# EAGLE library part SPRESENSE_100PIN_CON (library hirose)
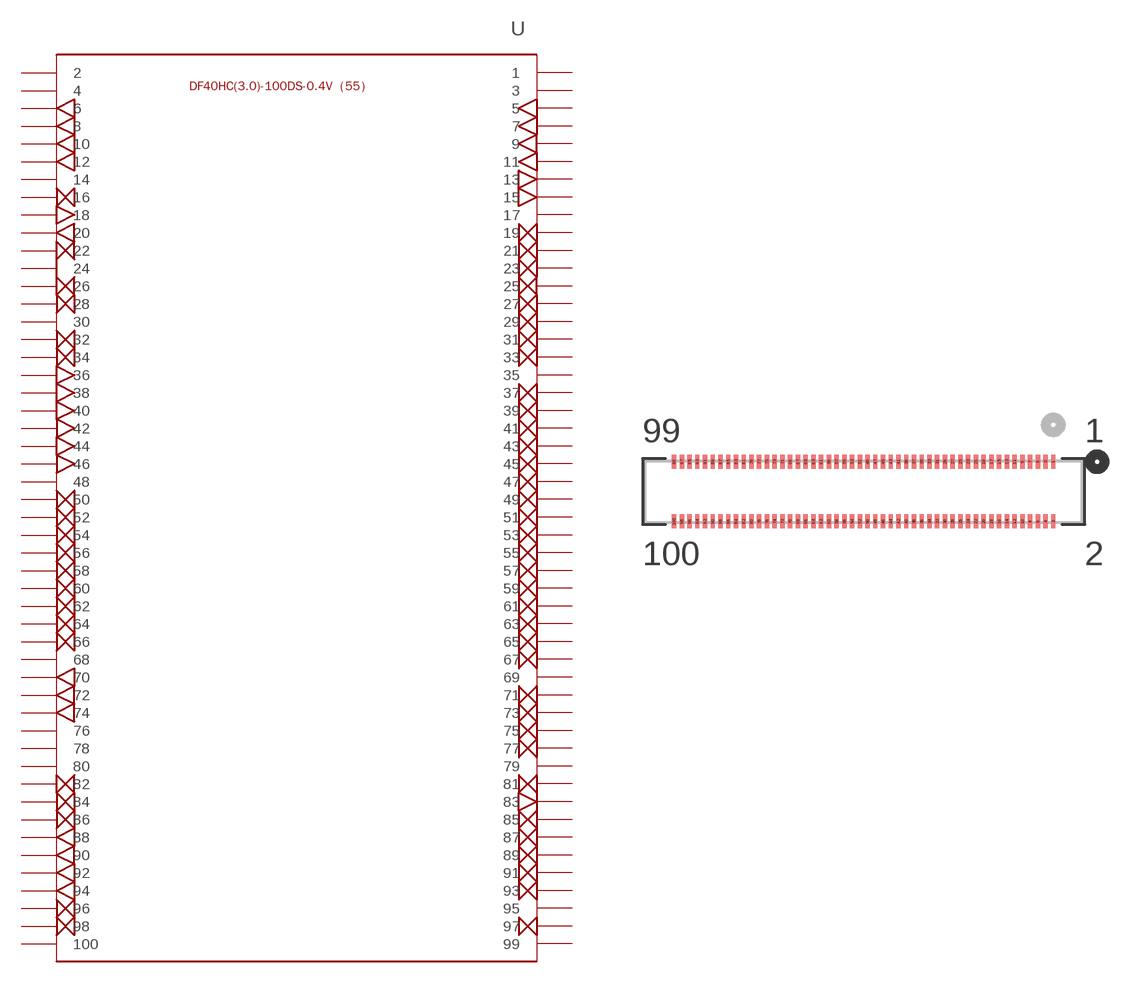
[diagram p1: symbol with the pads of CONN_DF40HC-100DS_HIR; footprint CONN_DF40HC-100DS_HIR]

Designator prefix -

## SPRESENSE_100PIN_CON  [CONN_DF40HC-100DS_HIR]
1  1  pwr
2  2  pwr
3  3  pwr
4  4  pwr
5  5  in
6  6  out
7  7  in
8  8  out
9  9  in
10  10  out
11  11  out
12  12  out
13  13  out
14  14  pwr
15  15  out
16  16
17  17  pwr
18  18  in
19  19  oc
20  20  out
21  21  oc
22  22
23  23
24  24  in
25  25
26  26
27  27
28  28
29  29
30  30
31  31
32  32
33  33
34  34
35  35  pwr
36  36  in
37  37
38  38  in
39  39
40  40  in
41  41
42  42  in
43  43
44  44  in
45  45
46  46  in
47  47
48  48  pwr
49  49
50  50
51  51
52  52
53  53
54  54
55  55
56  56
57  57
58  58
59  59
60  60
61  61
62  62
63  63
64  64
65  65
66  66
67  67
68  68  pwr
69  69  pwr
70  70  out
71  71
72  72  out
73  73
74  74  out
75  75
76  76  pwr
77  77
78  78  pwr
79  79  pwr
80  80  pwr
81  81
82  82
83  83
84  84  oc
85  85
86  86  oc
87  87
88  88  out
89  89
90  90  out
91  91
92  92  out
93  93
94  94  out
95  95  pwr
96  96
97  97
98  98
99  99  pwr
100  100  pwr

## Footprint CONN_DF40HC-100DS_HIR (pad centres in mm)
smd 0.229 x 0.711: 1 9.8,1.54; 2 9.8,-1.54; 3 9.4,1.54; 4 9.4,-1.54; 5 9,1.54; 6 9,-1.54; 7 8.6,1.54; 8 8.6,-1.54; 9 8.2,1.54; 10 8.2,-1.54; 11 7.8,1.54; 12 7.8,-1.54; 13 7.4,1.54; 14 7.4,-1.54; 15 7,1.54; 16 7,-1.54; 17 6.6,1.54; 18 6.6,-1.54; 19 6.2,1.54; 20 6.2,-1.54; 21 5.8,1.54; 22 5.8,-1.54; 23 5.4,1.54; 24 5.4,-1.54; 25 5,1.54; 26 5,-1.54; 27 4.6,1.54; 28 4.6,-1.54; 29 4.2,1.54; 30 4.2,-1.54; 31 3.8,1.54; 32 3.8,-1.54; 33 3.4,1.54; 34 3.4,-1.54; 35 3,1.54; 36 3,-1.54; 37 2.6,1.54; 38 2.6,-1.54; 39 2.2,1.54; 40 2.2,-1.54; 41 1.8,1.54; 42 1.8,-1.54; 43 1.4,1.54; 44 1.4,-1.54; 45 1,1.54; 46 1,-1.54; 47 0.6,1.54; 48 0.6,-1.54; 49 0.2,1.54; 50 0.2,-1.54; 51 -0.2,1.54; 52 -0.2,-1.54; 53 -0.6,1.54; 54 -0.6,-1.54; 55 -1,1.54; 56 -1,-1.54; 57 -1.4,1.54; 58 -1.4,-1.54; 59 -1.8,1.54; 60 -1.8,-1.54; 61 -2.2,1.54; 62 -2.2,-1.54; 63 -2.6,1.54; 64 -2.6,-1.54; 65 -3,1.54; 66 -3,-1.54; 67 -3.4,1.54; 68 -3.4,-1.54; 69 -3.8,1.54; 70 -3.8,-1.54; 71 -4.2,1.54; 72 -4.2,-1.54; 73 -4.6,1.54; 74 -4.6,-1.54; 75 -5,1.54; 76 -5,-1.54; 77 -5.4,1.54; 78 -5.4,-1.54; 79 -5.8,1.54; 80 -5.8,-1.54; 81 -6.2,1.54; 82 -6.2,-1.54; 83 -6.6,1.54; 84 -6.6,-1.54; 85 -7,1.54; 86 -7,-1.54; 87 -7.4,1.54; 88 -7.4,-1.54; 89 -7.8,1.54; 90 -7.8,-1.54; 91 -8.2,1.54; 92 -8.2,-1.54; 93 -8.6,1.54; 94 -8.6,-1.54; 95 -9,1.54; 96 -9,-1.54; 97 -9.4,1.54; 98 -9.4,-1.54; 99 -9.8,1.54; 100 -9.8,-1.54